# EAGLE library part 6180XX231321_618009231321 (library 618015233821_Eagle_WR-DSUB_rev20a)
WR-DSUB 10.30 mm Female Angled PCB Connector w. Hex Screw Kind Properties Quality Class:3 as per CECC 75 301-802 Gender:Female Type:Angled Insulator Material:PBT Insulator Flammability Rating:UL94 V-0 Color:Black Contact Material:Copper Alloy Contact Plating:Selective Gold Contact Type:Stamped Shielding Material:Steel Shielding Plating:Nickel General Information Operating Temperature:-55 up to +105 °C Compliance:RoHS Electrical Properties IR1:3 A Working Voltage:125 V (AC) Withstanding Voltage:1000 V (AC) Contact Resistance:30 mΩ <https://www.we-online.com/catalog/media/o60808v209%20Family_I-O_DSUB_PCB_Female_w-screw_6180xx231321_pf2.jpg> Details see: https://www.we-online.com/catalog/en/DSUB_FEMALE_ANGLED_PCB_CONNECTOR_W_HEX_SCREW_10_30MM_6180XX231321/ Updated by Yingchun, Shan 2020-01-14 2020 (C) Würth Elektronik
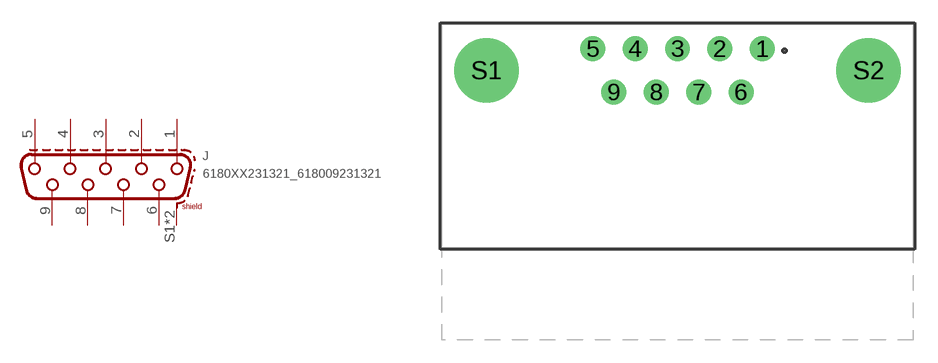
[diagram p12: symbol with the pads of 618009231321; footprint 618009231321]

Designator prefix J

## 6180XX231321_618009231321 (DATASHEET-URL: https://www.we-online.com/catalog/datasheet/618009231321.pdf; GENDER: Female; MATES-WITH: WR-DSUB 8.08 mm Male Angled PCB Connector w/o Hex Screw/Female Terminal Housing/Male IDC/Male PCB Connector/Male Solder Bucket; PART-NUMBER: 618009231321; PINS: 9; TYPE: Angled; WE-NUMBER: 618009231321)  [618009231321]
1  1
2  2
3  3
4  4
5  5
6  6
7  7
8  8
9  9
S1  SHIELD
S2  SHIELD

## Footprint 618009231321 (pad centres in mm)
WR-DSUB 10.30 mm Female Angled PCB Connector w. Hex Screw, 9 Pins
drill 1.09: 1 5.54,8.735; 2 2.77,8.735; 3 0,8.735; 4 -2.77,8.735; 5 -5.54,8.735; 6 4.155,5.895; 7 1.385,5.895; 8 -1.385,5.895; 9 -4.155,5.895
drill 3.2: S1 -12.495,7.315; S2 12.495,7.315